# Altium footprint library power.PcbLib: 1 footprints
Each footprint in its own frame and in the unit in brackets; x right, y up, seen from the top. Pads: shape width x height; smd on the part's side, far side on the other; paste and mask are expansions set on the pad; w line width, h text height; cw(c..) or ccw(c..) is an arc to the next point about the centre after c.
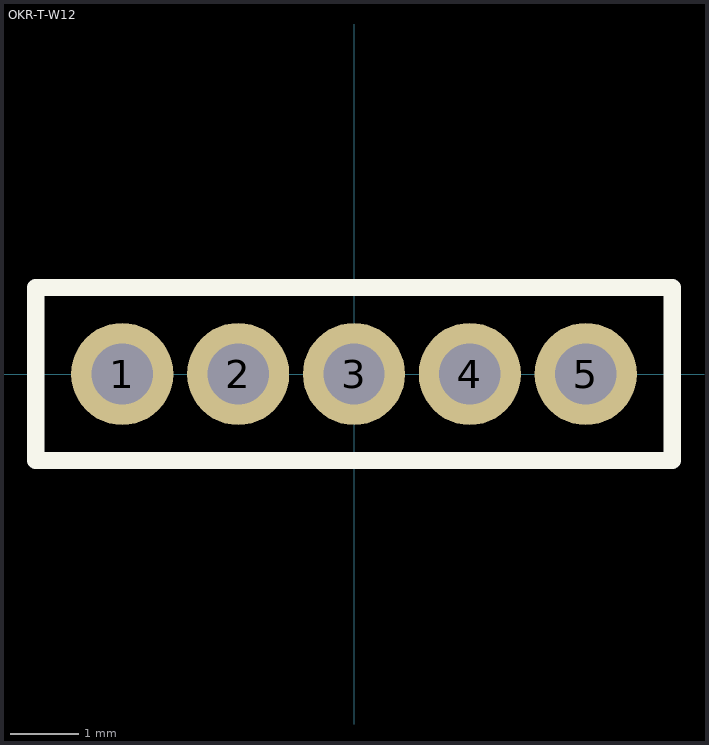
[diagram p0: the footprint, top view; thin cyan lines are the x and y axes]

## OKR-T-W12 [mm]
pads (5):
  round 1.5 hole 0.9: 1(-3.404,0) 2(-1.702,0) 3(0,0) 4(1.702,0) 5(3.404,0)
Top Overlay:
  lines w0.254: -4.674,-1.27 4.674,-1.27 4.674,1.27 -4.674,1.27 -4.674,-1.27
3D body: height 16.64, standoff -2.95, extent -5.207,-3.683 5.207,3.937